# Altium schematic symbol library C4017.SchLib: 1 symbol
Pins are listed as number, name and electrical type; pins without a type are passive.

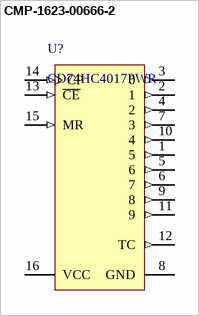
[diagram p0: symbol CMP-1623-00666-2]

## CMP-1623-00666-2
designator U?, comment CD74HC4017PWR
High Speed CMOS Logic Decade Counter/Divider with 10 Decoded Outputs, PW0016A, LARGE T&R; Manufacturer: Texas Instruments; VCC(Min)(V): 2; Schmitt Trigger: No; ICC @ Nom Voltage(Max)(mA): 0.08; Bits(#): 10; Voltage(Nom)(V): 3.3,5; Input Type: LVTTL/CMOS; tpd @ Nom Voltage(Max)(ns): 54; Technology Family: HC; Inputs: 1; Rating: Catalog; Output Drive (IOL/IOH)(Max)(mA): 5.2/-5.2; F @ Nom Voltage(Max)(Mhz): 28; VCC(Max)(V): 6; Output Type: CMOS; PackageReference: PW0016A; Code_JEDEC: MO-153; Function: Counter; Operating Temperature Range(C): -55 to 125; Generic Part Number: CD74HC4017; DatasheetVersion: SCHS200D; Type: Decade
footprint PW0016A_M (SOP, 16-Leads, Body 5.1x4.5mm, Pitch 0.65mm, IPC Low Density)
footprint PW0016A_L (SOP, 16-Leads, Body 5.1x4.5mm, Pitch 0.65mm, IPC High Density)
footprint PW0016A_N (SOP, 16-Leads, Body 5.1x4.5mm, Pitch 0.65mm, IPC Medium Density)
pins: 1 5 (out), 2 1 (out), 3 0 (out), 4 2 (out), 5 6 (out), 6 7 (out), 7 3 (out), 8 GND (power), 9 8 (out), 10 4 (out), 11 9 (out), 12 TC (out), 13 ~{CE} (in), 14 CP (in), 15 MR (in), 16 VCC (power)